# Altium integrated library TI Power Management Power Modules.IntLib: 831 symbols (part 15 of 44)
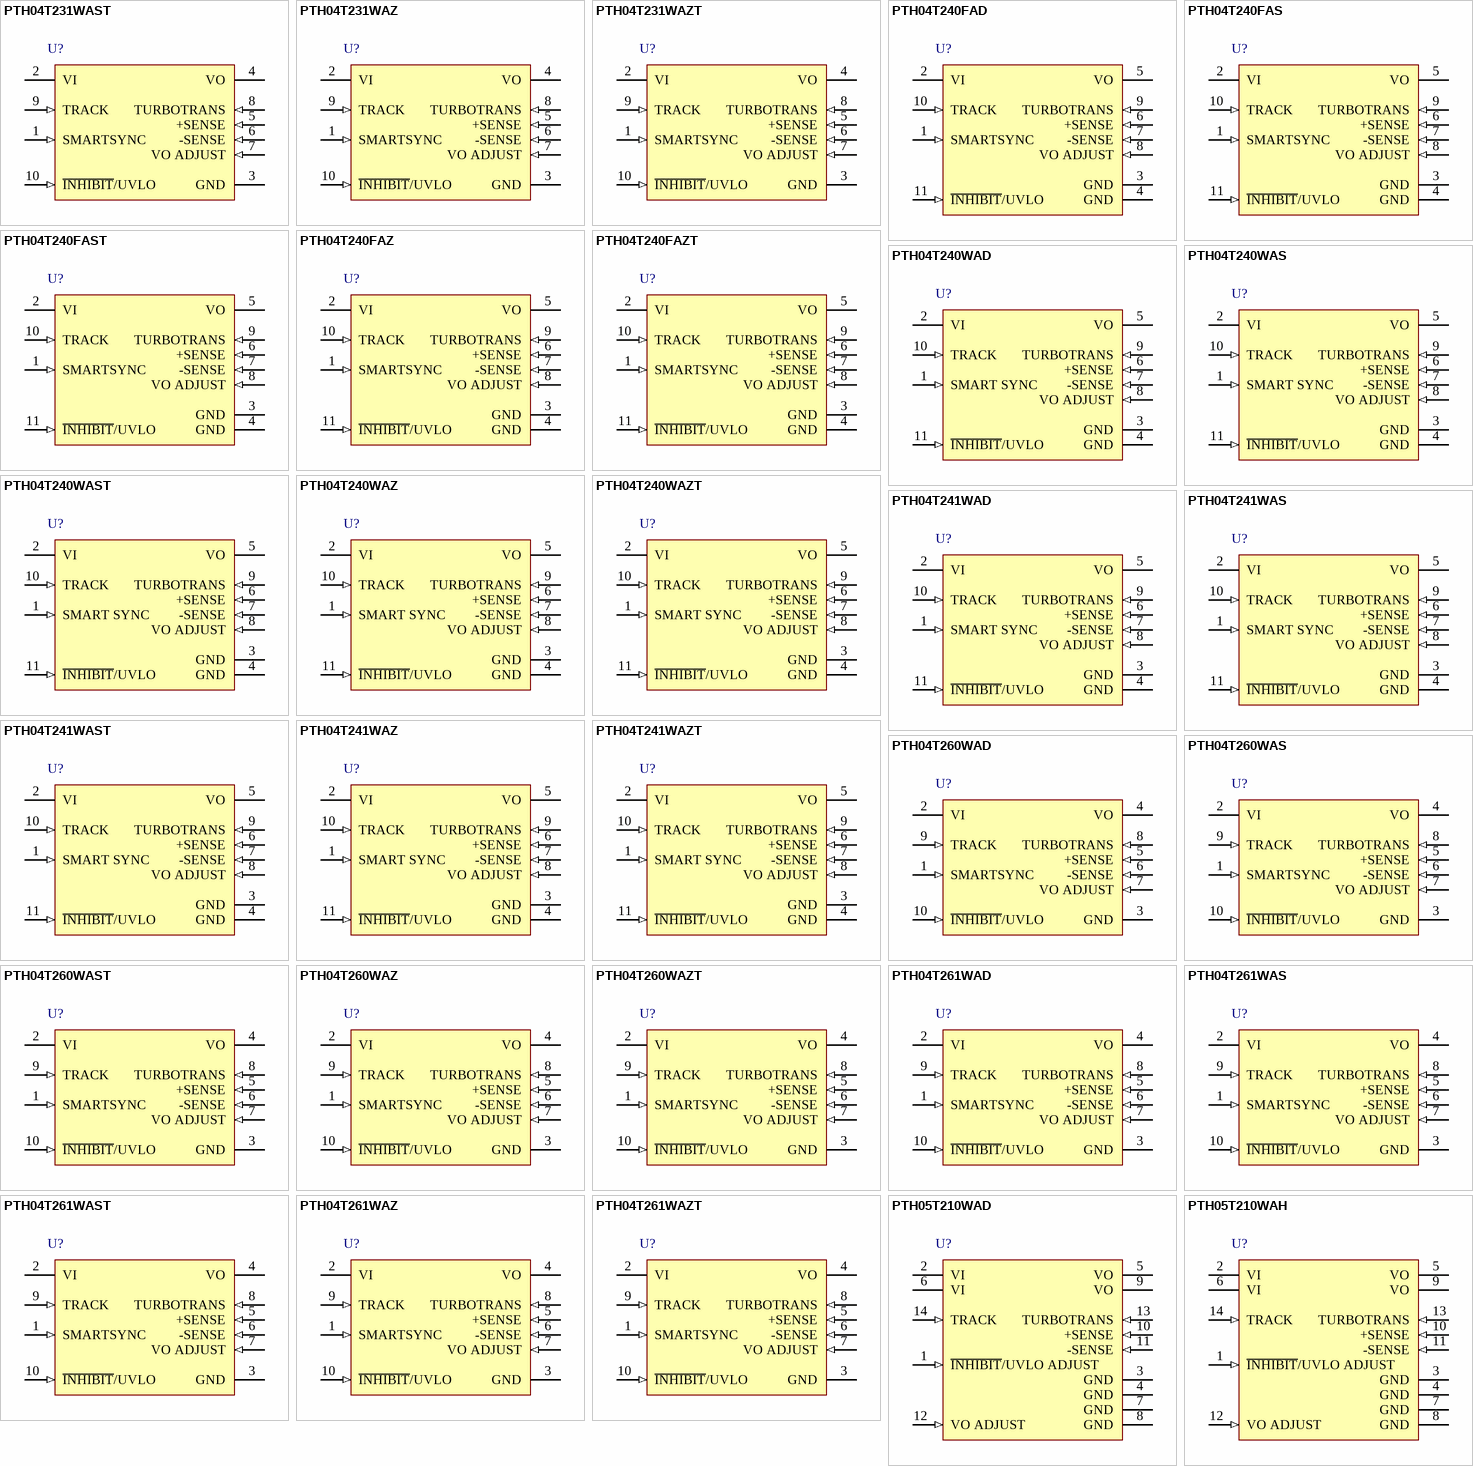
[diagram p37: symbols PTH04T231WAST to PTH05T210WAH]

## PTH04T241WAS
designator U?
10 A, 2.2 to 5.5 V Input, Ceramic Cap Version, Non-Isolated, Wide-Output, Adjustable Power Module with TurboTrans, -40 to 85 degC, 11-pin Module (EAZ11); Manufacturer: Texas Instruments; PartNumber: PTH04T241WAS; Eco-Plan: TBD; Iout(Max)(A): 10; Regulated Outputs(#): 1; SubFamily: Non-Isolated POL; Vin(Max)(V): 5.5; Vin(Min)(V): 2.2; VO Adjustable: TRUE; Vout(Max)(V): 3.6; Vout(Min)(V): 0.69; DatasheetVersion: SLTS276D; PackageVersion: 4208151/B; PackageReference: EAZ11; PackageDescription: 11-Pin Plastic Special Shape, Body 15.75 x 22.1 mm; Supplier 1: Digi-Key; Supplier Part Number 1: 296-21705-ND; Supplier 2: Newark; Supplier Part Number 2: 41M4005; Supplier 3: Mouser; Supplier Part Number 3: 595-PTH04T241WAS; Mounting Technology: Surface Mount; ComponentLink1Description: Manufacturer URL; ComponentLink1URL: http://www.ti.com/; ComponentLink2Description: Datasheet; ComponentLink2URL: http://www.ti.com/general/docs/lit/getliterature.tsp?genericPartNumber=PTH04T241W&fileType=pdf; ComponentLink3Description: Package Specification; ComponentLink3URL: http://www.ti.com/lit/ml/mpds299a/mpds299a.pdf; ComponentLink4Description: URL Link1; ComponentLink4URL: Samples URL:http://www.ti.com/product/pth04t241w#samples
footprint TI-EAZ11_V (Module, 11-Leads, Body 22.1x15.75mm)
pins: 1 SMART SYNC (in) "This input pin sychronizes the switching frequency of the module to an external clock frequency. The SmartSync feature can be used to sychronize the switching fequency of multiple PTH04T240/241W modules, aiding EMI noise (See Datasheet)", 2 VI (power) "The positive input voltage power node to the module, which is referenced to common GND.", 3 GND (power) "This is the common ground connection for the VI and VO power connections. It is also the 0 Vdc reference for the control inputs.", 4 GND (power) "This is the common ground connection for the VI and VO power connections. It is also the 0 Vdc reference for the control inputs.", 5 VO (power) "The regulated positive power output with respect to GND.", 6 +SENSE (in) "The sense input allows the regulation circuit to compensate for voltage drop between the module and the load. For optimal voltage accuracy, +Sense must be connected to VO, very close to the load.", 7 -SENSE (in) "The sense input allows the regulation circuit to compensate for voltage drop between the module and the load. For optimal voltage accuracy -Sense must be connected to GND (pin4) very close to the module (within 10cm).", 8 VO ADJUST (in) "A 0.05 W 1% resistor must be connected between this pin and pin7 (-Sense), close to the module to set the output voltage to a value higher than 0.69V. The temperature stability of the resistor should be 100 ppm/degreesC (or (See Datasheet)", 9 TURBOTRANS (in) "This input pin adjusts the transient response of the regulator. To activate the TurboTrans feature, a 1%, 50mW resistor must be connected between this pin and pin 6 (+Sense) very close to the module. For a given value of (See Datasheet)", 10 TRACK (in) "This is an analog control input that enables the output voltage to follow an external voltage. This pin becomes active typically 20 ms after the input voltage has been applied, and allows direct control of the output voltage (See Datasheet)", 11 ~{INHIBIT}/UVLO (in) "The Inhibit pin is an open-collector/drain, negative logic input that is referenced to GND. Applying a low level ground signal to this input disables the module’s output and turns off the output voltage. When the Inhibit (See Datasheet)"

## PTH04T241WAST
designator U?
10 A, 2.2 to 5.5 V Input, Ceramic Cap Version, Non-Isolated, Wide-Output, Adjustable Power Module with TurboTrans, -40 to 85 degC, 11-pin Module (EAZ11); Manufacturer: Texas Instruments; PartNumber: PTH04T241WAST; Eco-Plan: TBD; Iout(Max)(A): 10; Regulated Outputs(#): 1; SubFamily: Non-Isolated POL; Vin(Max)(V): 5.5; Vin(Min)(V): 2.2; VO Adjustable: TRUE; Vout(Max)(V): 3.6; Vout(Min)(V): 0.69; DatasheetVersion: SLTS276D; PackageVersion: 4208151/B; PackageReference: EAZ11; PackageDescription: 11-Pin Plastic Special Shape, Body 15.75 x 22.1 mm; Supplier 1: Digi-Key; Supplier Part Number 1: PTH04T241WAST-ND; Supplier 2: Mouser; Supplier Part Number 2: 595-PTH04T241WAST; Mounting Technology: Surface Mount; ComponentLink1Description: Manufacturer URL; ComponentLink1URL: http://www.ti.com/; ComponentLink2Description: Datasheet; ComponentLink2URL: http://www.ti.com/general/docs/lit/getliterature.tsp?genericPartNumber=PTH04T241W&fileType=pdf; ComponentLink3Description: Package Specification; ComponentLink3URL: http://www.ti.com/lit/ml/mpds299a/mpds299a.pdf; ComponentLink4Description: URL Link1; ComponentLink4URL: Samples URL:http://www.ti.com/product/pth04t241w#samples
footprint TI-EAZ11_V (Module, 11-Leads, Body 22.1x15.75mm)
pins: 1 SMART SYNC (in) "This input pin sychronizes the switching frequency of the module to an external clock frequency. The SmartSync feature can be used to sychronize the switching fequency of multiple PTH04T240/241W modules, aiding EMI noise (See Datasheet)", 2 VI (power) "The positive input voltage power node to the module, which is referenced to common GND.", 3 GND (power) "This is the common ground connection for the VI and VO power connections. It is also the 0 Vdc reference for the control inputs.", 4 GND (power) "This is the common ground connection for the VI and VO power connections. It is also the 0 Vdc reference for the control inputs.", 5 VO (power) "The regulated positive power output with respect to GND.", 6 +SENSE (in) "The sense input allows the regulation circuit to compensate for voltage drop between the module and the load. For optimal voltage accuracy, +Sense must be connected to VO, very close to the load.", 7 -SENSE (in) "The sense input allows the regulation circuit to compensate for voltage drop between the module and the load. For optimal voltage accuracy -Sense must be connected to GND (pin4) very close to the module (within 10cm).", 8 VO ADJUST (in) "A 0.05 W 1% resistor must be connected between this pin and pin7 (-Sense), close to the module to set the output voltage to a value higher than 0.69V. The temperature stability of the resistor should be 100 ppm/degreesC (or (See Datasheet)", 9 TURBOTRANS (in) "This input pin adjusts the transient response of the regulator. To activate the TurboTrans feature, a 1%, 50mW resistor must be connected between this pin and pin 6 (+Sense) very close to the module. For a given value of (See Datasheet)", 10 TRACK (in) "This is an analog control input that enables the output voltage to follow an external voltage. This pin becomes active typically 20 ms after the input voltage has been applied, and allows direct control of the output voltage (See Datasheet)", 11 ~{INHIBIT}/UVLO (in) "The Inhibit pin is an open-collector/drain, negative logic input that is referenced to GND. Applying a low level ground signal to this input disables the module’s output and turns off the output voltage. When the Inhibit (See Datasheet)"

## PTH04T241WAZ
designator U?
10 A, 2.2 to 5.5 V Input, Ceramic Cap Version, Non-Isolated, Wide-Output, Adjustable Power Module with TurboTrans, -40 to 85 degC, 11-pin Module (BAZ11), Pb-Free (RoHS); Manufacturer: Texas Instruments; PartNumber: PTH04T241WAZ; Iout(Max)(A): 10; Regulated Outputs(#): 1; SubFamily: Non-Isolated POL; Vin(Max)(V): 5.5; Vin(Min)(V): 2.2; VO Adjustable: TRUE; Vout(Max)(V): 3.6; Vout(Min)(V): 0.69; DatasheetVersion: SLTS276D; PackageVersion: 4208152/B; PackageReference: BAZ11; PackageDescription: 11-Pin Plastic Special Shape, Body 15.75 x 22.1 mm; Supplier 1: Digi-Key; Supplier Part Number 1: 296-21706-ND; Supplier 2: Newark; Supplier Part Number 2: 41M4007; Supplier 3: Mouser; Supplier Part Number 3: 595-PTH04T241WAZ; Eco-Plan: Pb-Free (RoHS); Mounting Technology: Surface Mount; ComponentLink1Description: Manufacturer URL; ComponentLink1URL: http://www.ti.com/; ComponentLink2Description: Datasheet; ComponentLink2URL: http://www.ti.com/general/docs/lit/getliterature.tsp?genericPartNumber=PTH04T241W&fileType=pdf; ComponentLink3Description: Package Specification; ComponentLink3URL: http://www.ti.com/lit/ml/mpds300a/mpds300a.pdf; ComponentLink4Description: URL Link1; ComponentLink4URL: Samples URL:http://www.ti.com/product/pth04t241w#samples
footprint TI-BAZ11_V (Module, 11-Leads, Body 22.1x15.75mm)
pins: 1 SMART SYNC (in) "This input pin sychronizes the switching frequency of the module to an external clock frequency. The SmartSync feature can be used to sychronize the switching fequency of multiple PTH04T240/241W modules, aiding EMI noise (See Datasheet)", 2 VI (power) "The positive input voltage power node to the module, which is referenced to common GND.", 3 GND (power) "This is the common ground connection for the VI and VO power connections. It is also the 0 Vdc reference for the control inputs.", 4 GND (power) "This is the common ground connection for the VI and VO power connections. It is also the 0 Vdc reference for the control inputs.", 5 VO (power) "The regulated positive power output with respect to GND.", 6 +SENSE (in) "The sense input allows the regulation circuit to compensate for voltage drop between the module and the load. For optimal voltage accuracy, +Sense must be connected to VO, very close to the load.", 7 -SENSE (in) "The sense input allows the regulation circuit to compensate for voltage drop between the module and the load. For optimal voltage accuracy -Sense must be connected to GND (pin4) very close to the module (within 10cm).", 8 VO ADJUST (in) "A 0.05 W 1% resistor must be connected between this pin and pin7 (-Sense), close to the module to set the output voltage to a value higher than 0.69V. The temperature stability of the resistor should be 100 ppm/degreesC (or (See Datasheet)", 9 TURBOTRANS (in) "This input pin adjusts the transient response of the regulator. To activate the TurboTrans feature, a 1%, 50mW resistor must be connected between this pin and pin 6 (+Sense) very close to the module. For a given value of (See Datasheet)", 10 TRACK (in) "This is an analog control input that enables the output voltage to follow an external voltage. This pin becomes active typically 20 ms after the input voltage has been applied, and allows direct control of the output voltage (See Datasheet)", 11 ~{INHIBIT}/UVLO (in) "The Inhibit pin is an open-collector/drain, negative logic input that is referenced to GND. Applying a low level ground signal to this input disables the module’s output and turns off the output voltage. When the Inhibit (See Datasheet)"

## PTH04T241WAZT
designator U?
10 A, 2.2 to 5.5 V Input, Ceramic Cap Version, Non-Isolated, Wide-Output, Adjustable Power Module with TurboTrans, -40 to 85 degC, 11-pin Module (BAZ11), Pb-Free (RoHS); Manufacturer: Texas Instruments; PartNumber: PTH04T241WAZT; Iout(Max)(A): 10; Regulated Outputs(#): 1; SubFamily: Non-Isolated POL; Vin(Max)(V): 5.5; Vin(Min)(V): 2.2; VO Adjustable: TRUE; Vout(Max)(V): 3.6; Vout(Min)(V): 0.69; DatasheetVersion: SLTS276D; PackageVersion: 4208152/B; PackageReference: BAZ11; PackageDescription: 11-Pin Plastic Special Shape, Body 15.75 x 22.1 mm; Supplier 1: Digi-Key; Supplier Part Number 1: 296-32207-2-ND; Supplier 2: Digi-Key; Supplier Part Number 2: 296-32207-1-ND; Supplier 3: Digi-Key; Supplier Part Number 3: 296-32207-6-ND; Supplier 4: Newark; Supplier Part Number 4: 41M4008; Supplier 5: Mouser; Supplier Part Number 5: 595-PTH04T241WAZT; Eco-Plan: Pb-Free (RoHS); Mounting Technology: Surface Mount; ComponentLink1Description: Manufacturer URL; ComponentLink1URL: http://www.ti.com/; ComponentLink2Description: Datasheet; ComponentLink2URL: http://www.ti.com/general/docs/lit/getliterature.tsp?genericPartNumber=PTH04T241W&fileType=pdf; ComponentLink3Description: Package Specification; ComponentLink3URL: http://www.ti.com/lit/ml/mpds300a/mpds300a.pdf; ComponentLink4Description: URL Link1; ComponentLink4URL: Samples URL:http://www.ti.com/product/pth04t241w#samples
footprint TI-BAZ11_V (Module, 11-Leads, Body 22.1x15.75mm)
pins: 1 SMART SYNC (in) "This input pin sychronizes the switching frequency of the module to an external clock frequency. The SmartSync feature can be used to sychronize the switching fequency of multiple PTH04T240/241W modules, aiding EMI noise (See Datasheet)", 2 VI (power) "The positive input voltage power node to the module, which is referenced to common GND.", 3 GND (power) "This is the common ground connection for the VI and VO power connections. It is also the 0 Vdc reference for the control inputs.", 4 GND (power) "This is the common ground connection for the VI and VO power connections. It is also the 0 Vdc reference for the control inputs.", 5 VO (power) "The regulated positive power output with respect to GND.", 6 +SENSE (in) "The sense input allows the regulation circuit to compensate for voltage drop between the module and the load. For optimal voltage accuracy, +Sense must be connected to VO, very close to the load.", 7 -SENSE (in) "The sense input allows the regulation circuit to compensate for voltage drop between the module and the load. For optimal voltage accuracy -Sense must be connected to GND (pin4) very close to the module (within 10cm).", 8 VO ADJUST (in) "A 0.05 W 1% resistor must be connected between this pin and pin7 (-Sense), close to the module to set the output voltage to a value higher than 0.69V. The temperature stability of the resistor should be 100 ppm/degreesC (or (See Datasheet)", 9 TURBOTRANS (in) "This input pin adjusts the transient response of the regulator. To activate the TurboTrans feature, a 1%, 50mW resistor must be connected between this pin and pin 6 (+Sense) very close to the module. For a given value of (See Datasheet)", 10 TRACK (in) "This is an analog control input that enables the output voltage to follow an external voltage. This pin becomes active typically 20 ms after the input voltage has been applied, and allows direct control of the output voltage (See Datasheet)", 11 ~{INHIBIT}/UVLO (in) "The Inhibit pin is an open-collector/drain, negative logic input that is referenced to GND. Applying a low level ground signal to this input disables the module’s output and turns off the output voltage. When the Inhibit (See Datasheet)"

## PTH04T260WAD
designator U?
3 A, 2.2 to 5.5 V Input, Non-Isolated, Wide Output, Adjustable Power Module with TurboTrans, -40 to 85 degC, 10-pin Module (ECL10), Pb-Free (RoHS); Manufacturer: Texas Instruments; PartNumber: PTH04T260WAD; Iout(Max)(A): 3; Regulated Outputs(#): 1; SubFamily: Non-Isolated POL; Vin(Max)(V): 5.5; Vin(Min)(V): 2.2; VO Adjustable: TRUE; Vout(Max)(V): 3.6; Vout(Min)(V): 0.69; DatasheetVersion: SLTS273E; PackageVersion: 4207913/D; PackageReference: ECL10; PackageDescription: 10-Pin Plastic Special Shape, Body 15.75 x 18.92 mm; Supplier 1: Digi-Key; Supplier Part Number 1: 296-21797-ND; Supplier 2: Newark; Supplier Part Number 2: 18M7547; Supplier 3: Mouser; Supplier Part Number 3: 595-PTH04T260WAD; Eco-Plan: Pb-Free (RoHS); Mounting Technology: Through Hole; ComponentLink1Description: Manufacturer URL; ComponentLink1URL: http://www.ti.com/; ComponentLink2Description: Datasheet; ComponentLink2URL: http://www.ti.com/general/docs/lit/getliterature.tsp?genericPartNumber=PTH04T260W&fileType=pdf; ComponentLink3Description: Package Specification; ComponentLink3URL: http://www.ti.com/litv/pdf/mpds290c; ComponentLink4Description: URL Link1; ComponentLink4URL: Samples URL:http://www.ti.com/product/pth04t260w#samples
footprint TI-ECL10_V (Module, 10-Leads, Body 18.92x15.75 mm)
pins: 1 SMARTSYNC (in) "This input pin sychronizes the switching frequency of the module to an external clock frequency. The SmartSync feature can be used to sychronize the switching fequency of multiple PTH04T230/231W modules, aiding EMI noise (See Datasheet)", 2 VI (power) "The positive input voltage power node to the module, which is referenced to common GND.", 3 GND (power) "This is the common ground connection for the VI and VO power connections. It is also the 0 Vdc reference for the control inputs.", 4 VO (power) "The regulated positive power output with respect to the GND", 5 +SENSE (in) "The sense input allows the regulation circuit to compensate for voltage drop between the module and the load. For optimal voltage accuracy, +Sense must be connected to VO, close to the load.", 6 -SENSE (in) "The sense input allows the regulation circuit to compensate for voltage drop between the module and the load. For optimal voltage accuracy, -Sense must be connected to GND (pin 3), very close to the module (within 10 cm).", 7 VO ADJUST (in) "A 0.05 W 1% resistor must be directly connected between this pin and pin 6 (- Sense) to set the output voltage to a value higher than 0.69 V. The temperature stability of the resistor should be 100 ppm/degreesC (or better). (See Datasheet)", 8 TURBOTRANS (in) "This input pin adjusts the transient response of the regulator. To activate the TurboTrans feature, a 1%, 0.05 W resistor must be connected between this pin and pin 5 (+Sense) very close to the module. For a given value of (See Datasheet)", 9 TRACK (in) "This is an analog control input that enables the output voltage to follow an external voltage. This pin becomes active typically 20 ms after the input voltage has been applied, and allows direct control of the output voltage (See Datasheet)", 10 ~{INHIBIT}/UVLO (in) "The Inhibit pin is an open-collector/drain, negative logic input that is referenced to GND. Applying a low level ground signal to this input disables the module’s output and turns off the output voltage. When the Inhibit (See Datasheet)"

## PTH04T260WAS
designator U?
3 A, 2.2 to 5.5 V Input, Non-Isolated, Wide Output, Adjustable Power Module with TurboTrans, -40 to 85 degC, 10-pin Module (ECM10); Manufacturer: Texas Instruments; PartNumber: PTH04T260WAS; Iout(Max)(A): 3; Regulated Outputs(#): 1; SubFamily: Non-Isolated POL; Vin(Max)(V): 5.5; Vin(Min)(V): 2.2; VO Adjustable: TRUE; Vout(Max)(V): 3.6; Vout(Min)(V): 0.69; DatasheetVersion: SLTS273E; PackageVersion: 4207914/E; PackageReference: ECM10; PackageDescription: 10-Pin Plastic Special Shape, Body 15.75 x 18.92 mm; Supplier 1: Digi-Key; Supplier Part Number 1: 296-21319-ND; Supplier 2: Newark; Supplier Part Number 2: 18M7548; Supplier 3: Mouser; Supplier Part Number 3: 595-PTH04T260WAS; Mounting Technology: Surface Mount; ComponentLink1Description: Manufacturer URL; ComponentLink1URL: http://www.ti.com/; ComponentLink2Description: Datasheet; ComponentLink2URL: http://www.ti.com/general/docs/lit/getliterature.tsp?genericPartNumber=PTH04T260W&fileType=pdf; ComponentLink3Description: Package Specification; ComponentLink3URL: http://www.ti.com/litv/pdf/mpds291d; ComponentLink4Description: URL Link1; ComponentLink4URL: Samples URL:http://www.ti.com/product/pth04t260w#samples
footprint TI-ECM10_V (Module, 10-Leads, Body 18.92x15.75mm)
pins: 1 SMARTSYNC (in) "This input pin sychronizes the switching frequency of the module to an external clock frequency. The SmartSync feature can be used to sychronize the switching fequency of multiple PTH04T230/231W modules, aiding EMI noise (See Datasheet)", 2 VI (power) "The positive input voltage power node to the module, which is referenced to common GND.", 3 GND (power) "This is the common ground connection for the VI and VO power connections. It is also the 0 Vdc reference for the control inputs.", 4 VO (power) "The regulated positive power output with respect to the GND", 5 +SENSE (in) "The sense input allows the regulation circuit to compensate for voltage drop between the module and the load. For optimal voltage accuracy, +Sense must be connected to VO, close to the load.", 6 -SENSE (in) "The sense input allows the regulation circuit to compensate for voltage drop between the module and the load. For optimal voltage accuracy, -Sense must be connected to GND (pin 3), very close to the module (within 10 cm).", 7 VO ADJUST (in) "A 0.05 W 1% resistor must be directly connected between this pin and pin 6 (- Sense) to set the output voltage to a value higher than 0.69 V. The temperature stability of the resistor should be 100 ppm/degreesC (or better). (See Datasheet)", 8 TURBOTRANS (in) "This input pin adjusts the transient response of the regulator. To activate the TurboTrans feature, a 1%, 0.05 W resistor must be connected between this pin and pin 5 (+Sense) very close to the module. For a given value of (See Datasheet)", 9 TRACK (in) "This is an analog control input that enables the output voltage to follow an external voltage. This pin becomes active typically 20 ms after the input voltage has been applied, and allows direct control of the output voltage (See Datasheet)", 10 ~{INHIBIT}/UVLO (in) "The Inhibit pin is an open-collector/drain, negative logic input that is referenced to GND. Applying a low level ground signal to this input disables the module’s output and turns off the output voltage. When the Inhibit (See Datasheet)"

## PTH04T260WAST
designator U?
3 A, 2.2 to 5.5 V Input, Non-Isolated, Wide Output, Adjustable Power Module with TurboTrans, -40 to 85 degC, 10-pin Module (ECM10); Manufacturer: Texas Instruments; PartNumber: PTH04T260WAST; Iout(Max)(A): 3; Regulated Outputs(#): 1; SubFamily: Non-Isolated POL; Vin(Max)(V): 5.5; Vin(Min)(V): 2.2; VO Adjustable: TRUE; Vout(Max)(V): 3.6; Vout(Min)(V): 0.69; DatasheetVersion: SLTS273E; PackageVersion: 4207914/E; PackageReference: ECM10; PackageDescription: 10-Pin Plastic Special Shape, Body 15.75 x 18.92 mm; Supplier 1: Digi-Key; Supplier Part Number 1: PTH04T260WAST-ND; Supplier 2: Mouser; Supplier Part Number 2: 595-PTH04T260WAST; Mounting Technology: Surface Mount; ComponentLink1Description: Manufacturer URL; ComponentLink1URL: http://www.ti.com/; ComponentLink2Description: Datasheet; ComponentLink2URL: http://www.ti.com/general/docs/lit/getliterature.tsp?genericPartNumber=PTH04T260W&fileType=pdf; ComponentLink3Description: Package Specification; ComponentLink3URL: http://www.ti.com/litv/pdf/mpds291d; ComponentLink4Description: URL Link1; ComponentLink4URL: Samples URL:http://www.ti.com/product/pth04t260w#samples
footprint TI-ECM10_V (Module, 10-Leads, Body 18.92x15.75mm)
pins: 1 SMARTSYNC (in) "This input pin sychronizes the switching frequency of the module to an external clock frequency. The SmartSync feature can be used to sychronize the switching fequency of multiple PTH04T230/231W modules, aiding EMI noise (See Datasheet)", 2 VI (power) "The positive input voltage power node to the module, which is referenced to common GND.", 3 GND (power) "This is the common ground connection for the VI and VO power connections. It is also the 0 Vdc reference for the control inputs.", 4 VO (power) "The regulated positive power output with respect to the GND", 5 +SENSE (in) "The sense input allows the regulation circuit to compensate for voltage drop between the module and the load. For optimal voltage accuracy, +Sense must be connected to VO, close to the load.", 6 -SENSE (in) "The sense input allows the regulation circuit to compensate for voltage drop between the module and the load. For optimal voltage accuracy, -Sense must be connected to GND (pin 3), very close to the module (within 10 cm).", 7 VO ADJUST (in) "A 0.05 W 1% resistor must be directly connected between this pin and pin 6 (- Sense) to set the output voltage to a value higher than 0.69 V. The temperature stability of the resistor should be 100 ppm/degreesC (or better). (See Datasheet)", 8 TURBOTRANS (in) "This input pin adjusts the transient response of the regulator. To activate the TurboTrans feature, a 1%, 0.05 W resistor must be connected between this pin and pin 5 (+Sense) very close to the module. For a given value of (See Datasheet)", 9 TRACK (in) "This is an analog control input that enables the output voltage to follow an external voltage. This pin becomes active typically 20 ms after the input voltage has been applied, and allows direct control of the output voltage (See Datasheet)", 10 ~{INHIBIT}/UVLO (in) "The Inhibit pin is an open-collector/drain, negative logic input that is referenced to GND. Applying a low level ground signal to this input disables the module’s output and turns off the output voltage. When the Inhibit (See Datasheet)"

## PTH04T260WAZ
designator U?
3 A, 2.2 to 5.5 V Input, Non-Isolated, Wide Output, Adjustable Power Module with TurboTrans, -40 to 85 degC, 10-pin Module (BCM10), Pb-Free (RoHS); Manufacturer: Texas Instruments; PartNumber: PTH04T260WAZ; Iout(Max)(A): 3; Regulated Outputs(#): 1; SubFamily: Non-Isolated POL; Vin(Max)(V): 5.5; Vin(Min)(V): 2.2; VO Adjustable: TRUE; Vout(Max)(V): 3.6; Vout(Min)(V): 0.69; DatasheetVersion: SLTS273E; PackageVersion: 4207915/E; PackageReference: BCM10; PackageDescription: 10-Pin Plastic Special Shape, Body 15.75 x 18.92 mm; Supplier 1: Digi-Key; Supplier Part Number 1: 296-21798-ND; Supplier 2: Newark; Supplier Part Number 2: 18M7550; Supplier 3: Mouser; Supplier Part Number 3: 595-PTH04T260WAZ; Eco-Plan: Pb-Free (RoHS); Mounting Technology: Surface Mount; ComponentLink1Description: Manufacturer URL; ComponentLink1URL: http://www.ti.com/; ComponentLink2Description: Datasheet; ComponentLink2URL: http://www.ti.com/general/docs/lit/getliterature.tsp?genericPartNumber=PTH04T260W&fileType=pdf; ComponentLink3Description: Package Specification; ComponentLink3URL: http://www.ti.com/lit/ml/mpds292d/mpds292d.pdf; ComponentLink4Description: URL Link1; ComponentLink4URL: Samples URL:http://www.ti.com/product/pth04t260w#samples
footprint TI-BCM10_V (10-Leads Double Sided Module, Body 18.92x15.75mm)
pins: 1 SMARTSYNC (in) "This input pin sychronizes the switching frequency of the module to an external clock frequency. The SmartSync feature can be used to sychronize the switching fequency of multiple PTH04T230/231W modules, aiding EMI noise (See Datasheet)", 2 VI (power) "The positive input voltage power node to the module, which is referenced to common GND.", 3 GND (power) "This is the common ground connection for the VI and VO power connections. It is also the 0 Vdc reference for the control inputs.", 4 VO (power) "The regulated positive power output with respect to the GND", 5 +SENSE (in) "The sense input allows the regulation circuit to compensate for voltage drop between the module and the load. For optimal voltage accuracy, +Sense must be connected to VO, close to the load.", 6 -SENSE (in) "The sense input allows the regulation circuit to compensate for voltage drop between the module and the load. For optimal voltage accuracy, -Sense must be connected to GND (pin 3), very close to the module (within 10 cm).", 7 VO ADJUST (in) "A 0.05 W 1% resistor must be directly connected between this pin and pin 6 (- Sense) to set the output voltage to a value higher than 0.69 V. The temperature stability of the resistor should be 100 ppm/degreesC (or better). (See Datasheet)", 8 TURBOTRANS (in) "This input pin adjusts the transient response of the regulator. To activate the TurboTrans feature, a 1%, 0.05 W resistor must be connected between this pin and pin 5 (+Sense) very close to the module. For a given value of (See Datasheet)", 9 TRACK (in) "This is an analog control input that enables the output voltage to follow an external voltage. This pin becomes active typically 20 ms after the input voltage has been applied, and allows direct control of the output voltage (See Datasheet)", 10 ~{INHIBIT}/UVLO (in) "The Inhibit pin is an open-collector/drain, negative logic input that is referenced to GND. Applying a low level ground signal to this input disables the module’s output and turns off the output voltage. When the Inhibit (See Datasheet)"

## PTH04T260WAZT
designator U?
3 A, 2.2 to 5.5 V Input, Non-Isolated, Wide Output, Adjustable Power Module with TurboTrans, -40 to 85 degC, 10-pin Module (BCM10), Pb-Free (RoHS); Manufacturer: Texas Instruments; PartNumber: PTH04T260WAZT; Iout(Max)(A): 3; Regulated Outputs(#): 1; SubFamily: Non-Isolated POL; Vin(Max)(V): 5.5; Vin(Min)(V): 2.2; VO Adjustable: TRUE; Vout(Max)(V): 3.6; Vout(Min)(V): 0.69; DatasheetVersion: SLTS273E; PackageVersion: 4207915/E; PackageReference: BCM10; PackageDescription: 10-Pin Plastic Special Shape, Body 15.75 x 18.92 mm; Supplier 1: Digi-Key; Supplier Part Number 1: PTH04T260WAZT-ND; Supplier 2: Mouser; Supplier Part Number 2: 595-PTH04T260WAZT; Eco-Plan: Pb-Free (RoHS); Mounting Technology: Surface Mount; ComponentLink1Description: Manufacturer URL; ComponentLink1URL: http://www.ti.com/; ComponentLink2Description: Datasheet; ComponentLink2URL: http://www.ti.com/general/docs/lit/getliterature.tsp?genericPartNumber=PTH04T260W&fileType=pdf; ComponentLink3Description: Package Specification; ComponentLink3URL: http://www.ti.com/lit/ml/mpds292d/mpds292d.pdf; ComponentLink4Description: URL Link1; ComponentLink4URL: Samples URL:http://www.ti.com/product/pth04t260w#samples
footprint TI-BCM10_V (10-Leads Double Sided Module, Body 18.92x15.75mm)
pins: 1 SMARTSYNC (in) "This input pin sychronizes the switching frequency of the module to an external clock frequency. The SmartSync feature can be used to sychronize the switching fequency of multiple PTH04T230/231W modules, aiding EMI noise (See Datasheet)", 2 VI (power) "The positive input voltage power node to the module, which is referenced to common GND.", 3 GND (power) "This is the common ground connection for the VI and VO power connections. It is also the 0 Vdc reference for the control inputs.", 4 VO (power) "The regulated positive power output with respect to the GND", 5 +SENSE (in) "The sense input allows the regulation circuit to compensate for voltage drop between the module and the load. For optimal voltage accuracy, +Sense must be connected to VO, close to the load.", 6 -SENSE (in) "The sense input allows the regulation circuit to compensate for voltage drop between the module and the load. For optimal voltage accuracy, -Sense must be connected to GND (pin 3), very close to the module (within 10 cm).", 7 VO ADJUST (in) "A 0.05 W 1% resistor must be directly connected between this pin and pin 6 (- Sense) to set the output voltage to a value higher than 0.69 V. The temperature stability of the resistor should be 100 ppm/degreesC (or better). (See Datasheet)", 8 TURBOTRANS (in) "This input pin adjusts the transient response of the regulator. To activate the TurboTrans feature, a 1%, 0.05 W resistor must be connected between this pin and pin 5 (+Sense) very close to the module. For a given value of (See Datasheet)", 9 TRACK (in) "This is an analog control input that enables the output voltage to follow an external voltage. This pin becomes active typically 20 ms after the input voltage has been applied, and allows direct control of the output voltage (See Datasheet)", 10 ~{INHIBIT}/UVLO (in) "The Inhibit pin is an open-collector/drain, negative logic input that is referenced to GND. Applying a low level ground signal to this input disables the module’s output and turns off the output voltage. When the Inhibit (See Datasheet)"

## PTH04T261WAD
designator U?
3 A, 2.2 to 5.5 V Input, Ceramic Cap Version, Non-Iso, Wide Output, Adj Power Module with TurboTrans, -40 to 85 degC, 10-pin Module (ECL10), Pb-Free (RoHS); Manufacturer: Texas Instruments; PartNumber: PTH04T261WAD; Iout(Max)(A): 3; Regulated Outputs(#): 1; SubFamily: Non-Isolated POL; Vin(Max)(V): 5.5; Vin(Min)(V): 2.2; VO Adjustable: TRUE; Vout(Max)(V): 3.6; Vout(Min)(V): 0.69; DatasheetVersion: SLTS273E; PackageVersion: 4207913/D; PackageReference: ECL10; PackageDescription: 10-Pin Plastic Special Shape, Body 15.75 x 18.92 mm; Supplier 1: Digi-Key; Supplier Part Number 1: 296-21799-ND; Supplier 2: Newark; Supplier Part Number 2: 18M7552; Supplier 3: Mouser; Supplier Part Number 3: 595-PTH04T261WAD; Eco-Plan: Pb-Free (RoHS); Mounting Technology: Through Hole; ComponentLink1Description: Manufacturer URL; ComponentLink1URL: http://www.ti.com/; ComponentLink2Description: Datasheet; ComponentLink2URL: http://www.ti.com/general/docs/lit/getliterature.tsp?genericPartNumber=PTH04T261W&fileType=pdf; ComponentLink3Description: Package Specification; ComponentLink3URL: http://www.ti.com/litv/pdf/mpds290c; ComponentLink4Description: URL Link1; ComponentLink4URL: Samples URL:http://www.ti.com/product/pth04t261w#samples
footprint TI-ECL10_V (Module, 10-Leads, Body 18.92x15.75 mm)
pins: 1 SMARTSYNC (in) "This input pin sychronizes the switching frequency of the module to an external clock frequency. The SmartSync feature can be used to sychronize the switching fequency of multiple PTH04T230/231W modules, aiding EMI noise (See Datasheet)", 2 VI (power) "The positive input voltage power node to the module, which is referenced to common GND.", 3 GND (power) "This is the common ground connection for the VI and VO power connections. It is also the 0 Vdc reference for the control inputs.", 4 VO (power) "The regulated positive power output with respect to the GND", 5 +SENSE (in) "The sense input allows the regulation circuit to compensate for voltage drop between the module and the load. For optimal voltage accuracy, +Sense must be connected to VO, close to the load.", 6 -SENSE (in) "The sense input allows the regulation circuit to compensate for voltage drop between the module and the load. For optimal voltage accuracy, -Sense must be connected to GND (pin 3), very close to the module (within 10 cm).", 7 VO ADJUST (in) "A 0.05 W 1% resistor must be directly connected between this pin and pin 6 (- Sense) to set the output voltage to a value higher than 0.69 V. The temperature stability of the resistor should be 100 ppm/degreesC (or better). (See Datasheet)", 8 TURBOTRANS (in) "This input pin adjusts the transient response of the regulator. To activate the TurboTrans feature, a 1%, 0.05 W resistor must be connected between this pin and pin 5 (+Sense) very close to the module. For a given value of (See Datasheet)", 9 TRACK (in) "This is an analog control input that enables the output voltage to follow an external voltage. This pin becomes active typically 20 ms after the input voltage has been applied, and allows direct control of the output voltage (See Datasheet)", 10 ~{INHIBIT}/UVLO (in) "The Inhibit pin is an open-collector/drain, negative logic input that is referenced to GND. Applying a low level ground signal to this input disables the module’s output and turns off the output voltage. When the Inhibit (See Datasheet)"

## PTH04T261WAS
designator U?
3 A, 2.2 to 5.5 V Input, Ceramic Cap Version, Non-Iso, Wide Output, Adj Power Module with TurboTrans, -40 to 85 degC, 10-pin Module (ECM10); Manufacturer: Texas Instruments; PartNumber: PTH04T261WAS; Eco-Plan: TBD; Iout(Max)(A): 3; Regulated Outputs(#): 1; SubFamily: Non-Isolated POL; Vin(Max)(V): 5.5; Vin(Min)(V): 2.2; VO Adjustable: TRUE; Vout(Max)(V): 3.6; Vout(Min)(V): 0.69; DatasheetVersion: SLTS273E; PackageVersion: 4207914/E; PackageReference: ECM10; PackageDescription: 10-Pin Plastic Special Shape, Body 15.75 x 18.92 mm; Supplier 1: Digi-Key; Supplier Part Number 1: 296-21800-ND; Supplier 2: Mouser; Supplier Part Number 2: 595-PTH04T261WAS; Mounting Technology: Surface Mount; ComponentLink1Description: Manufacturer URL; ComponentLink1URL: http://www.ti.com/; ComponentLink2Description: Datasheet; ComponentLink2URL: http://www.ti.com/general/docs/lit/getliterature.tsp?genericPartNumber=PTH04T261W&fileType=pdf; ComponentLink3Description: Package Specification; ComponentLink3URL: http://www.ti.com/litv/pdf/mpds291d; ComponentLink4Description: URL Link1; ComponentLink4URL: Samples URL:http://www.ti.com/product/pth04t261w#samples
footprint TI-ECM10_V (Module, 10-Leads, Body 18.92x15.75mm)
pins: 1 SMARTSYNC (in) "This input pin sychronizes the switching frequency of the module to an external clock frequency. The SmartSync feature can be used to sychronize the switching fequency of multiple PTH04T230/231W modules, aiding EMI noise (See Datasheet)", 2 VI (power) "The positive input voltage power node to the module, which is referenced to common GND.", 3 GND (power) "This is the common ground connection for the VI and VO power connections. It is also the 0 Vdc reference for the control inputs.", 4 VO (power) "The regulated positive power output with respect to the GND", 5 +SENSE (in) "The sense input allows the regulation circuit to compensate for voltage drop between the module and the load. For optimal voltage accuracy, +Sense must be connected to VO, close to the load.", 6 -SENSE (in) "The sense input allows the regulation circuit to compensate for voltage drop between the module and the load. For optimal voltage accuracy, -Sense must be connected to GND (pin 3), very close to the module (within 10 cm).", 7 VO ADJUST (in) "A 0.05 W 1% resistor must be directly connected between this pin and pin 6 (- Sense) to set the output voltage to a value higher than 0.69 V. The temperature stability of the resistor should be 100 ppm/degreesC (or better). (See Datasheet)", 8 TURBOTRANS (in) "This input pin adjusts the transient response of the regulator. To activate the TurboTrans feature, a 1%, 0.05 W resistor must be connected between this pin and pin 5 (+Sense) very close to the module. For a given value of (See Datasheet)", 9 TRACK (in) "This is an analog control input that enables the output voltage to follow an external voltage. This pin becomes active typically 20 ms after the input voltage has been applied, and allows direct control of the output voltage (See Datasheet)", 10 ~{INHIBIT}/UVLO (in) "The Inhibit pin is an open-collector/drain, negative logic input that is referenced to GND. Applying a low level ground signal to this input disables the module’s output and turns off the output voltage. When the Inhibit (See Datasheet)"

## PTH04T261WAST
designator U?
3 A, 2.2 to 5.5 V Input, Ceramic Cap Version, Non-Iso, Wide Output, Adj Power Module with TurboTrans, -40 to 85 degC, 10-pin Module (ECM10); Manufacturer: Texas Instruments; PartNumber: PTH04T261WAST; Eco-Plan: TBD; Iout(Max)(A): 3; Regulated Outputs(#): 1; SubFamily: Non-Isolated POL; Vin(Max)(V): 5.5; Vin(Min)(V): 2.2; VO Adjustable: TRUE; Vout(Max)(V): 3.6; Vout(Min)(V): 0.69; DatasheetVersion: SLTS273E; PackageVersion: 4207914/E; PackageReference: ECM10; PackageDescription: 10-Pin Plastic Special Shape, Body 15.75 x 18.92 mm; Supplier 1: Digi-Key; Supplier Part Number 1: PTH04T261WAST-ND; Supplier 2: Mouser; Supplier Part Number 2: 595-PTH04T261WAST; Mounting Technology: Surface Mount; ComponentLink1Description: Manufacturer URL; ComponentLink1URL: http://www.ti.com/; ComponentLink2Description: Datasheet; ComponentLink2URL: http://www.ti.com/general/docs/lit/getliterature.tsp?genericPartNumber=PTH04T261W&fileType=pdf; ComponentLink3Description: Package Specification; ComponentLink3URL: http://www.ti.com/litv/pdf/mpds291d; ComponentLink4Description: URL Link1; ComponentLink4URL: Samples URL:http://www.ti.com/product/pth04t261w#samples
footprint TI-ECM10_V (Module, 10-Leads, Body 18.92x15.75mm)
pins: 1 SMARTSYNC (in) "This input pin sychronizes the switching frequency of the module to an external clock frequency. The SmartSync feature can be used to sychronize the switching fequency of multiple PTH04T230/231W modules, aiding EMI noise (See Datasheet)", 2 VI (power) "The positive input voltage power node to the module, which is referenced to common GND.", 3 GND (power) "This is the common ground connection for the VI and VO power connections. It is also the 0 Vdc reference for the control inputs.", 4 VO (power) "The regulated positive power output with respect to the GND", 5 +SENSE (in) "The sense input allows the regulation circuit to compensate for voltage drop between the module and the load. For optimal voltage accuracy, +Sense must be connected to VO, close to the load.", 6 -SENSE (in) "The sense input allows the regulation circuit to compensate for voltage drop between the module and the load. For optimal voltage accuracy, -Sense must be connected to GND (pin 3), very close to the module (within 10 cm).", 7 VO ADJUST (in) "A 0.05 W 1% resistor must be directly connected between this pin and pin 6 (- Sense) to set the output voltage to a value higher than 0.69 V. The temperature stability of the resistor should be 100 ppm/degreesC (or better). (See Datasheet)", 8 TURBOTRANS (in) "This input pin adjusts the transient response of the regulator. To activate the TurboTrans feature, a 1%, 0.05 W resistor must be connected between this pin and pin 5 (+Sense) very close to the module. For a given value of (See Datasheet)", 9 TRACK (in) "This is an analog control input that enables the output voltage to follow an external voltage. This pin becomes active typically 20 ms after the input voltage has been applied, and allows direct control of the output voltage (See Datasheet)", 10 ~{INHIBIT}/UVLO (in) "The Inhibit pin is an open-collector/drain, negative logic input that is referenced to GND. Applying a low level ground signal to this input disables the module’s output and turns off the output voltage. When the Inhibit (See Datasheet)"

## PTH04T261WAZ
designator U?
3 A, 2.2 to 5.5 V Input, Ceramic Cap Version, Non-Iso, Wide Output, Adj Power Module with TurboTrans, -40 to 85 degC, 10-pin Module (BCM10), Pb-Free (RoHS); Manufacturer: Texas Instruments; PartNumber: PTH04T261WAZ; Iout(Max)(A): 3; Regulated Outputs(#): 1; SubFamily: Non-Isolated POL; Vin(Max)(V): 5.5; Vin(Min)(V): 2.2; VO Adjustable: TRUE; Vout(Max)(V): 3.6; Vout(Min)(V): 0.69; DatasheetVersion: SLTS273E; PackageVersion: 4207915/E; PackageReference: BCM10; PackageDescription: 10-Pin Plastic Special Shape, Body 15.75 x 18.92 mm; Supplier 1: Digi-Key; Supplier Part Number 1: 296-21801-ND; Supplier 2: Newark; Supplier Part Number 2: 18M7555; Supplier 3: Mouser; Supplier Part Number 3: 595-PTH04T261WAZ; Eco-Plan: Pb-Free (RoHS); Mounting Technology: Surface Mount; ComponentLink1Description: Manufacturer URL; ComponentLink1URL: http://www.ti.com/; ComponentLink2Description: Datasheet; ComponentLink2URL: http://www.ti.com/general/docs/lit/getliterature.tsp?genericPartNumber=PTH04T261W&fileType=pdf; ComponentLink3Description: Package Specification; ComponentLink3URL: http://www.ti.com/lit/ml/mpds292d/mpds292d.pdf; ComponentLink4Description: URL Link1; ComponentLink4URL: Samples URL:http://www.ti.com/product/pth04t261w#samples
footprint TI-BCM10_V (10-Leads Double Sided Module, Body 18.92x15.75mm)
pins: 1 SMARTSYNC (in) "This input pin sychronizes the switching frequency of the module to an external clock frequency. The SmartSync feature can be used to sychronize the switching fequency of multiple PTH04T230/231W modules, aiding EMI noise (See Datasheet)", 2 VI (power) "The positive input voltage power node to the module, which is referenced to common GND.", 3 GND (power) "This is the common ground connection for the VI and VO power connections. It is also the 0 Vdc reference for the control inputs.", 4 VO (power) "The regulated positive power output with respect to the GND", 5 +SENSE (in) "The sense input allows the regulation circuit to compensate for voltage drop between the module and the load. For optimal voltage accuracy, +Sense must be connected to VO, close to the load.", 6 -SENSE (in) "The sense input allows the regulation circuit to compensate for voltage drop between the module and the load. For optimal voltage accuracy, -Sense must be connected to GND (pin 3), very close to the module (within 10 cm).", 7 VO ADJUST (in) "A 0.05 W 1% resistor must be directly connected between this pin and pin 6 (- Sense) to set the output voltage to a value higher than 0.69 V. The temperature stability of the resistor should be 100 ppm/degreesC (or better). (See Datasheet)", 8 TURBOTRANS (in) "This input pin adjusts the transient response of the regulator. To activate the TurboTrans feature, a 1%, 0.05 W resistor must be connected between this pin and pin 5 (+Sense) very close to the module. For a given value of (See Datasheet)", 9 TRACK (in) "This is an analog control input that enables the output voltage to follow an external voltage. This pin becomes active typically 20 ms after the input voltage has been applied, and allows direct control of the output voltage (See Datasheet)", 10 ~{INHIBIT}/UVLO (in) "The Inhibit pin is an open-collector/drain, negative logic input that is referenced to GND. Applying a low level ground signal to this input disables the module’s output and turns off the output voltage. When the Inhibit (See Datasheet)"

## PTH04T261WAZT
designator U?
3 A, 2.2 to 5.5 V Input, Ceramic Cap Version, Non-Iso, Wide Output, Adj Power Module with TurboTrans, -40 to 85 degC, 10-pin Module (BCM10), Pb-Free (RoHS); Manufacturer: Texas Instruments; PartNumber: PTH04T261WAZT; Iout(Max)(A): 3; Regulated Outputs(#): 1; SubFamily: Non-Isolated POL; Vin(Max)(V): 5.5; Vin(Min)(V): 2.2; VO Adjustable: TRUE; Vout(Max)(V): 3.6; Vout(Min)(V): 0.69; DatasheetVersion: SLTS273E; PackageVersion: 4207915/E; PackageReference: BCM10; PackageDescription: 10-Pin Plastic Special Shape, Body 15.75 x 18.92 mm; Supplier 1: Digi-Key; Supplier Part Number 1: PTH04T261WAZT-ND; Supplier 2: Mouser; Supplier Part Number 2: 595-PTH04T261WAZT; Eco-Plan: Pb-Free (RoHS); Mounting Technology: Surface Mount; ComponentLink1Description: Manufacturer URL; ComponentLink1URL: http://www.ti.com/; ComponentLink2Description: Datasheet; ComponentLink2URL: http://www.ti.com/general/docs/lit/getliterature.tsp?genericPartNumber=PTH04T261W&fileType=pdf; ComponentLink3Description: Package Specification; ComponentLink3URL: http://www.ti.com/lit/ml/mpds292d/mpds292d.pdf; ComponentLink4Description: URL Link1; ComponentLink4URL: Samples URL:http://www.ti.com/product/tps55010#samples
footprint TI-BCM10_V (10-Leads Double Sided Module, Body 18.92x15.75mm)
pins: 1 SMARTSYNC (in) "This input pin sychronizes the switching frequency of the module to an external clock frequency. The SmartSync feature can be used to sychronize the switching fequency of multiple PTH04T230/231W modules, aiding EMI noise (See Datasheet)", 2 VI (power) "The positive input voltage power node to the module, which is referenced to common GND.", 3 GND (power) "This is the common ground connection for the VI and VO power connections. It is also the 0 Vdc reference for the control inputs.", 4 VO (power) "The regulated positive power output with respect to the GND", 5 +SENSE (in) "The sense input allows the regulation circuit to compensate for voltage drop between the module and the load. For optimal voltage accuracy, +Sense must be connected to VO, close to the load.", 6 -SENSE (in) "The sense input allows the regulation circuit to compensate for voltage drop between the module and the load. For optimal voltage accuracy, -Sense must be connected to GND (pin 3), very close to the module (within 10 cm).", 7 VO ADJUST (in) "A 0.05 W 1% resistor must be directly connected between this pin and pin 6 (- Sense) to set the output voltage to a value higher than 0.69 V. The temperature stability of the resistor should be 100 ppm/degreesC (or better). (See Datasheet)", 8 TURBOTRANS (in) "This input pin adjusts the transient response of the regulator. To activate the TurboTrans feature, a 1%, 0.05 W resistor must be connected between this pin and pin 5 (+Sense) very close to the module. For a given value of (See Datasheet)", 9 TRACK (in) "This is an analog control input that enables the output voltage to follow an external voltage. This pin becomes active typically 20 ms after the input voltage has been applied, and allows direct control of the output voltage (See Datasheet)", 10 ~{INHIBIT}/UVLO (in) "The Inhibit pin is an open-collector/drain, negative logic input that is referenced to GND. Applying a low level ground signal to this input disables the module’s output and turns off the output voltage. When the Inhibit (See Datasheet)"